# Altium footprint library Package_SON.PcbLib: 75 footprints (part 1 of 5)
Each footprint in its own frame and in the unit in brackets; x right, y up, seen from the top. Pads: shape width x height; smd on the part's side, far side on the other; paste and mask are expansions set on the pad; w line width, h text height; cw(c..) or ccw(c..) is an arc to the next point about the centre after c.
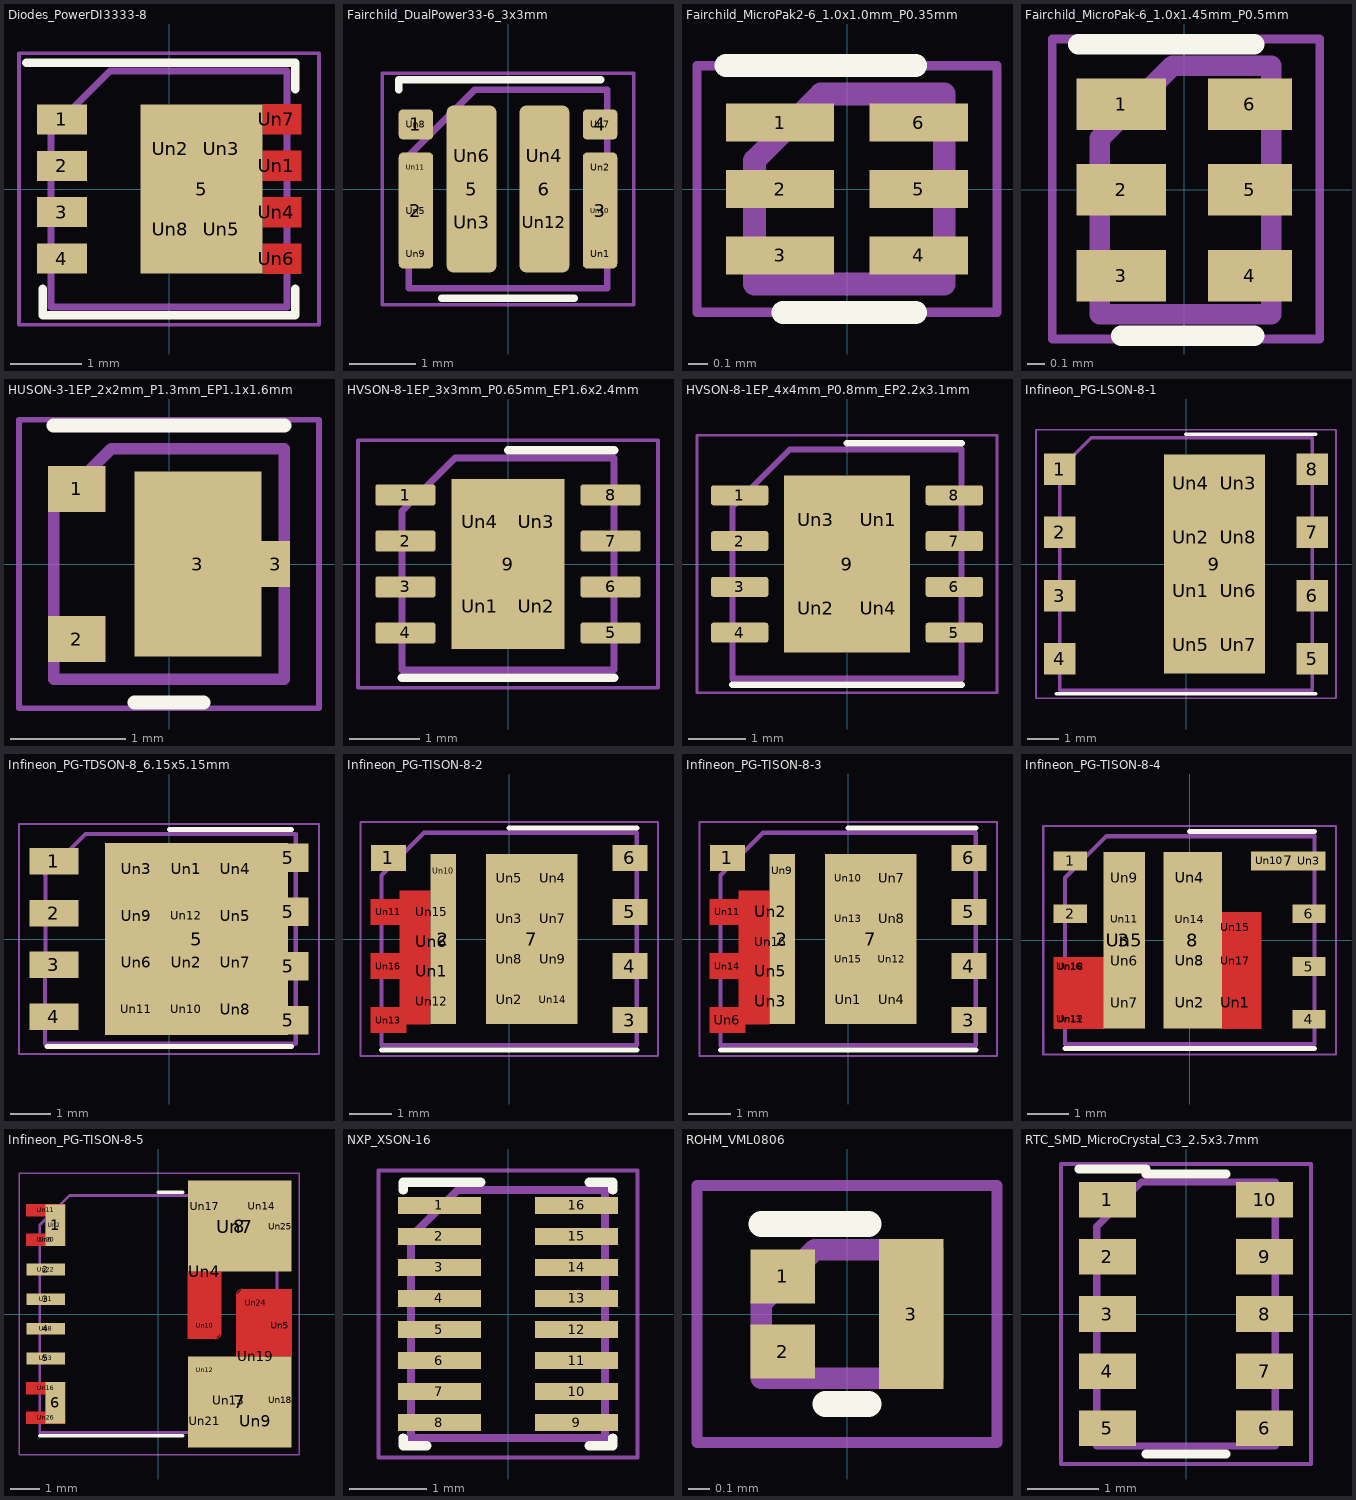
[diagram p0: the footprints below, top view; thin cyan lines are the x and y axes]

## Diodes_PowerDI3333-8 [mm]
pads (13):
  rect 0.7x0.42 smd: 1(-1.5,0.975) 2(-1.5,0.325) 3(-1.5,-0.325) 4(-1.5,-0.975)
  rect 1.71x2.37 smd: 5(0.455,0)
  rect 0.7x0.42 on Top Paste: Un1(1.5,0.325) Un4(1.5,-0.325) Un6(1.5,-0.975) Un7(1.5,0.975)
  rect 0.6x1 on Top Paste: Un2(0.02,0.565) Un3(0.73,0.565) Un5(0.73,-0.565) Un8(0.02,-0.565)
F.Cu:
  region: 1.85,0.765 1.31,0.765 1.31,1.185 1.85,1.185
  region: 1.85,0.115 1.31,0.115 1.31,0.535 1.85,0.535
  region: 1.85,-0.535 1.31,-0.535 1.31,-0.115 1.85,-0.115
  region: 1.85,-1.185 1.31,-1.185 1.31,-0.765 1.85,-0.765
F.SilkS:
  lines w0.12: -2,1.77 1.77,1.77 1.77,1.4 ; -1.77,-1.4 -1.77,-1.77 1.77,-1.77 1.77,-1.4
F.Mask:
  region: 1.85,0.765 1.31,0.765 1.31,1.185 1.85,1.185
  region: 1.85,0.115 1.31,0.115 1.31,0.535 1.85,0.535
  region: 1.85,-0.535 1.31,-0.535 1.31,-0.115 1.85,-0.115
  region: 1.85,-1.185 1.31,-1.185 1.31,-0.765 1.85,-0.765
F.CrtYd:
  lines w0.05: -2.1,-1.9 2.1,-1.9 2.1,1.9 -2.1,1.9 -2.1,-1.9
F.Fab:
  lines w0.1: -1.65,-1.65 1.65,-1.65 1.65,1.65 -0.825,1.65 -1.65,0.825 -1.65,-1.65
  text "'.Designator'" at -2.828,-0.583 h0.7

## Fairchild_DualPower33-6_3x3mm [mm]
pads (18):
  rrect25% 0.52x0.45 smd: 1(-1.39,0.975) 4(1.39,0.975)
  rrect25% 0.52x1.75 smd: 2(-1.39,-0.325) 3(1.39,-0.325)
  rrect25% 0.75x2.52 smd: 5(-0.55,0) 6(0.55,0)
  rrect25% 0.35x0.35 on Top Paste: Un1(1.39,-0.975) Un2(1.39,0.325) Un5(-1.39,-0.325) Un7(1.39,0.975) Un8(-1.39,0.975) Un9(-1.39,-0.975) Un10(1.39,-0.325) Un11(-1.39,0.325)
  rrect25% 0.65x0.8 on Top Paste: Un3(-0.55,-0.5) Un4(0.55,0.5) Un6(-0.55,0.5) Un12(0.55,-0.5)
F.SilkS:
  lines w0.12: -1.65,1.5 -1.65,1.65 1.4,1.65 ; -1,-1.65 1,-1.65
F.CrtYd:
  lines w0.05: -1.9,-1.75 1.9,-1.75 1.9,1.75 -1.9,1.75 -1.9,-1.75
F.Fab:
  lines w0.1: -1.5,-1.5 1.5,-1.5 1.5,1.5 -0.5,1.5 -1.5,0.5 -1.5,-1.5
  text "'.Designator'" at -2.633,-0.549 h0.65

## Fairchild_MicroPak2-6_1.0x1.0mm_P0.35mm [mm]
pads (6):
  rect 0.57x0.2 smd: 1(-0.353,0.35) 2(-0.353,0) 3(-0.353,-0.35)
  rect 0.52x0.2 smd: 4(0.377,-0.35) 5(0.377,0) 6(0.377,0.35)
F.SilkS:
  lines w0.12: -0.637,0.65 0.363,0.65 ; -0.337,-0.65 0.363,-0.65
F.CrtYd:
  lines w0.05: -0.79,-0.65 -0.79,0.65 0.79,0.65 0.79,-0.65 -0.79,-0.65
F.Fab:
  lines w0.12: -0.487,-0.5 -0.487,0.15 -0.138,0.5 0.513,0.5 0.513,-0.5 -0.487,-0.5
  text "'.Designator'" at -2.011,-0.42 h0.5

## Fairchild_MicroPak-6_1.0x1.45mm_P0.5mm [mm]
pads (6):
  rect 0.52x0.3 smd: 1(-0.367,0.5) 2(-0.367,0) 3(-0.367,-0.5)
  rect 0.49x0.3 smd: 4(0.383,-0.5) 5(0.383,0) 6(0.383,0.5)
F.SilkS:
  lines w0.12: -0.617,0.85 0.407,0.85 ; -0.367,-0.85 0.407,-0.85
F.CrtYd:
  lines w0.05: -0.77,-0.87 0.79,-0.87 0.79,0.88 -0.77,0.88 -0.77,-0.87
F.Fab:
  lines w0.12: -0.493,-0.725 -0.493,0.3 -0.068,0.725 0.507,0.725 0.507,-0.725 -0.493,-0.725
  text "'.Designator'" at -2.016,-0.42 h0.5

## HUSON-3-1EP_2x2mm_P1.3mm_EP1.1x1.6mm [mm]
pads (4):
  rect 0.5x0.4 smd: 1(-0.8,0.65) 2(-0.8,-0.65)
  rect 1.1x1.6 smd: 3(0.25,0)
  rect 0.25x0.4 smd: 3(0.925,0)
F.SilkS:
  lines w0.12: -1,1.2 1,1.2 ; -0.3,-1.2 0.3,-1.2
F.CrtYd:
  lines w0.05: -1.3,-1.25 1.3,-1.25 1.3,1.25 -1.3,1.25 -1.3,-1.25
F.Fab:
  lines w0.1: -1,-1 1,-1 1,1 -0.5,1 -1,0.5 -1,-1
  text "'.Designator'" at -1.619,-0.336 h0.4

## HVSON-8-1EP_3x3mm_P0.65mm_EP1.6x2.4mm [mm]
pads (13):
  rrect25% 0.85x0.3 smd: 1(-1.45,0.975) 2(-1.45,0.325) 3(-1.45,-0.325) 4(-1.45,-0.975) 5(1.45,-0.975) 6(1.45,-0.325) 7(1.45,0.325) 8(1.45,0.975)
  rect 1.6x2.4 smd: 9(0,0)
  rrect25% 0.64x0.97 on Top Paste: Un1(-0.4,-0.6) Un2(0.4,-0.6) Un3(0.4,0.6) Un4(-0.4,0.6)
F.SilkS:
  lines w0.12: -1.5,-1.61 1.5,-1.61 ; 0,1.61 1.5,1.61
F.CrtYd:
  lines w0.05: -2.12,-1.75 -2.12,1.75 2.12,1.75 2.12,-1.75 -2.12,-1.75
F.Fab:
  lines w0.1: -1.5,-1.5 -1.5,0.75 -0.75,1.5 1.5,1.5 1.5,-1.5 -1.5,-1.5
  text "'.Designator'" at -3.033,-0.628 h0.75

## HVSON-8-1EP_4x4mm_P0.8mm_EP2.2x3.1mm [mm]
pads (13):
  rrect25% 1x0.35 smd: 1(-1.875,1.2) 2(-1.875,0.4) 3(-1.875,-0.4) 4(-1.875,-1.2) 5(1.875,-1.2) 6(1.875,-0.4) 7(1.875,0.4) 8(1.875,1.2)
  rect 2.2x3.1 smd: 9(0,0)
  rrect25% 0.89x1.25 on Top Paste: Un1(0.55,0.775) Un2(-0.55,-0.775) Un3(-0.55,0.775) Un4(0.55,-0.775)
F.SilkS:
  lines w0.12: -2,-2.11 2,-2.11 ; 0,2.11 2,2.11
F.CrtYd:
  lines w0.05: -2.62,-2.25 -2.62,2.25 2.62,2.25 2.62,-2.25 -2.62,-2.25
F.Fab:
  lines w0.1: -2,-2 -2,1 -1,2 2,2 2,-2 -2,-2
  text "'.Designator'" at -4.047,-0.84 h1

## Infineon_PG-LSON-8-1 [mm]
pads (17):
  rect 1x1 smd: 1(-4,3) 2(-4,1) 3(-4,-1) 4(-4,-3) 5(4,-3) 6(4,-1) 7(4,1) 8(4,3)
  rect 3.2x6.94 smd: 9(0.9,0)
  rect 1.2x1.4 on Top Paste: Un1(0.15,-0.85) Un2(0.15,0.85) Un3(1.65,2.55) Un4(0.15,2.55) Un5(0.15,-2.55) Un6(1.65,-0.85) Un7(1.65,-2.55) Un8(1.65,0.85)
F.SilkS:
  lines w0.12: -4.11,-4.11 4.11,-4.11 ; 0,4.11 4.1,4.11
F.CrtYd:
  lines w0.05: -4.75,-4.25 4.75,-4.25 4.75,4.25 -4.75,4.25 -4.75,-4.25
F.Fab:
  lines w0.1: -4,-4 4,-4 4,4 -3,4 -4,3 -4,-4
  text "'.Designator'" at -4.047,-0.84 h1

## Infineon_PG-TDSON-8_6.15x5.15mm [mm]
pads (21):
  rect 1.2x0.65 smd: 1(-2.825,1.905) 2(-2.825,0.635) 3(-2.825,-0.635) 4(-2.825,-1.905)
  rect 4.5x4.7 smd: 5(0.675,0)
  rect 1x0.7 smd: 5(2.925,-1.995) 5(2.925,-0.665) 5(2.925,0.665) 5(2.925,1.995)
  rect 0.9x0.9 on Top Paste: Un1(0.425,1.725) Un2(0.425,-0.575) Un3(-0.8,1.725) Un4(1.625,1.725) Un5(1.625,0.575) Un6(-0.8,-0.575) Un7(1.625,-0.575) Un8(1.625,-1.725) Un9(-0.8,0.575) Un10(0.425,-1.725) Un11(-0.8,-1.725) Un12(0.425,0.575)
F.SilkS:
  lines w0.12: -2.995,-2.64 3.005,-2.64 ; 0.005,2.685 3.005,2.685
F.CrtYd:
  lines w0.05: -3.68,-2.82 -3.68,2.82 3.68,2.82 3.68,-2.82 -3.68,-2.82
F.Fab:
  lines w0.1: -3.045,1.575 -2.045,2.575 ; -3.04,-2.57 3.11,-2.57 3.11,2.58 -2.04,2.58 ; -3.04,-2.56 -3.035,1.57
  text "'.Designator'" at -1.06,-4.097 h1

## Infineon_PG-TISON-8-2 [mm]
pads (23):
  rect 0.83x0.61 smd: 1(-2.84,1.905) 3(2.84,-1.905) 4(2.84,-0.635) 5(2.84,0.635) 6(2.84,1.905)
  rect 0.6x4 smd: 2(-1.555,0)
  rect 2.15x4 smd: 7(0.53,0)
  rect 0.9x0.5 on Top Paste: Un1(-1.82,-0.76) Un6(-1.82,-0.06) Un12(-1.82,-1.46) Un15(-1.82,0.64)
  rect 0.75x0.75 on Top Paste: Un2(0,-1.425) Un3(0,0.475) Un4(1.025,1.425) Un5(0,1.425) Un7(1.025,0.475) Un8(0,-0.475) Un9(1.025,-0.475) Un14(1.025,-1.425)
  rect 0.35x0.6 on Top Paste: Un10(-1.545,1.6)
  rect 0.73x0.51 on Top Paste: Un11(-2.84,0.635) Un13(-2.84,-1.905) Un16(-2.84,-0.635)
F.Cu:
  region: -1.855,-2 -2.425,-2 -2.425,-2.21 -3.255,-2.21 -3.255,-1.6 -2.575,-1.6 -2.575,-0.94 -3.255,-0.94 -3.255,-0.33 -2.575,-0.33 -2.575,0.33 -3.255,0.33 -3.255,0.94 -2.575,0.94 -2.575,1.14 -1.855,1.14
F.SilkS:
  lines w0.12: -3,-2.61 3,-2.61 ; 0,2.61 3,2.61
F.Mask:
  region: -1.855,-2 -2.425,-2 -2.425,-2.21 -3.255,-2.21 -3.255,-1.6 -2.575,-1.6 -2.575,-0.94 -3.255,-0.94 -3.255,-0.33 -2.575,-0.33 -2.575,0.33 -3.255,0.33 -3.255,0.94 -2.575,0.94 -2.575,1.14 -1.855,1.14
F.CrtYd:
  lines w0.05: -3.5,-2.75 -3.5,2.75 3.5,2.75 3.5,-2.75 -3.5,-2.75
F.Fab:
  lines w0.1: -3,-2.5 -3,1.5 -2,2.5 3,2.5 3,-2.5 -3,-2.5
  text "'.Designator'" at -4.047,-0.84 h1

## Infineon_PG-TISON-8-3 [mm]
pads (23):
  rect 0.83x0.61 smd: 1(-2.84,1.905) 3(2.84,-1.905) 4(2.84,-0.635) 5(2.84,0.635) 6(2.84,1.905)
  rect 0.6x4 smd: 2(-1.555,0)
  rect 2.15x4 smd: 7(0.53,0)
  rect 0.75x0.75 on Top Paste: Un1(0,-1.425) Un4(1.025,-1.425) Un7(1.025,1.425) Un8(1.025,0.475) Un10(0,1.425) Un12(1.025,-0.475) Un13(0,0.475) Un15(0,-0.475)
  rect 0.9x0.5 on Top Paste: Un2(-1.82,0.64) Un3(-1.82,-1.46) Un5(-1.82,-0.76) Un16(-1.82,-0.06)
  rect 0.73x0.51 on Top Paste: Un6(-2.84,-1.905) Un11(-2.84,0.635) Un14(-2.84,-0.635)
  rect 0.35x0.6 on Top Paste: Un9(-1.545,1.6)
F.Cu:
  region: -1.855,-2 -2.425,-2 -2.425,-2.21 -3.255,-2.21 -3.255,-1.6 -2.575,-1.6 -2.575,-0.94 -3.255,-0.94 -3.255,-0.33 -2.575,-0.33 -2.575,0.33 -3.255,0.33 -3.255,0.94 -2.575,0.94 -2.575,1.14 -1.855,1.14
F.SilkS:
  lines w0.12: -3,-2.61 3,-2.61 ; 0,2.61 3,2.61
F.Mask:
  region: -1.855,-2 -2.425,-2 -2.425,-2.21 -3.255,-2.21 -3.255,-1.6 -2.575,-1.6 -2.575,-0.94 -3.255,-0.94 -3.255,-0.33 -2.575,-0.33 -2.575,0.33 -3.255,0.33 -3.255,0.94 -2.575,0.94 -2.575,1.14 -1.855,1.14
F.CrtYd:
  lines w0.05: -3.5,-2.75 3.5,-2.75 3.5,2.75 -3.5,2.75 -3.5,-2.75
F.Fab:
  lines w0.1: -3,-2.5 3,-2.5 3,2.5 -2,2.5 -3,1.5 -3,-2.5
  text "'.Designator'" at -4.047,-0.84 h1

## Infineon_PG-TISON-8-4 [mm]
pads (26):
  rect 0.8x0.45 smd: 1(-2.87,1.905) 2(-2.87,0.635) 4(2.87,-1.905) 5(2.87,-0.635) 6(2.87,0.635)
  rect 1x4.25 smd: 3(-1.57,0)
  rect 1.8x0.45 smd: 7(2.37,1.905)
  rect 1.4x4.25 smd: 8(0.077,0)
  rect 0.85x0.75 on Top Paste: Un1(1.1,-1.5) Un2(0,-1.5) Un4(0,1.5) Un8(0,-0.5) Un14(0,0.5) Un17(1.1,-0.5)
  rect 0.7x0.35 on Top Paste: Un3(2.87,1.905) Un13(-2.87,-1.905) Un16(-2.87,-0.635)
  rect 1x4.25 on Top Solder: Un5(-1.57,0)
  rect 0.8x0.75 on Top Paste: Un6(-1.57,-0.5) Un7(-1.57,-1.5) Un9(-1.57,1.5) Un11(-1.57,0.5)
  rect 0.8x0.35 on Top Paste: Un10(1.92,1.905)
  rect 0.8x0.45 on Top Solder: Un12(-2.87,-1.905) Un18(-2.87,-0.635)
  rect 0.85x0.38 on Top Paste: Un15(1.1,0.315)
F.Cu:
  region: -2.07,-2.13 -3.27,-2.13 -3.27,-0.41 -2.07,-0.41
  region: 1.727,-2.125 0.777,-2.125 0.777,0.675 1.727,0.675
F.SilkS:
  lines w0.12: -3,-2.61 3,-2.61 ; 0,2.61 3,2.61
F.Mask:
  region: 1.727,-2.125 0.777,-2.125 0.777,0.675 1.727,0.675
F.CrtYd:
  lines w0.05: -3.52,-2.75 3.52,-2.75 3.52,2.75 -3.52,2.75 -3.52,-2.75
F.Fab:
  lines w0.1: -3,-2.5 -3,1.5 -2,2.5 3,2.5 3,-2.5 -3,-2.5
  text "'.Designator'" at -4.047,-0.84 h1

## Infineon_PG-TISON-8-5 [mm]
pads (34):
  rect 0.66x1.4 smd: 1(-3.47,3) 6(-3.47,-3)
  rect 1.3x0.4 smd: 2(-3.8,1.5) 3(-3.8,0.5) 4(-3.8,-0.5) 5(-3.8,-1.5)
  rect 3.5x3.07 smd: 7(2.75,-2.965) 8(2.75,2.965)
  rect 1.2x0.3 on Top Paste: Un1(-3.8,0.5) Un3(-3.8,-1.5) Un6(-3.8,2.5) Un8(-3.8,-0.5) Un11(-3.8,3.5) Un16(-3.8,-2.5) Un20(-3.8,2.5) Un22(-3.8,1.5) Un26(-3.8,-3.5)
  rect 0.5x0.4 on Top Paste: Un2(-3.49,3) Un23(-3.49,-3)
  rect 0.7x1.6 on Top Paste: Un4(1.561,1.425)
  rect 0.4x2.055 on Top Paste: Un5(4.111,-0.403)
  rect 0.95x2.62 on Top Paste: Un7(2.586,2.94)
  rect 0.863x1.275 on Top Paste: Un9(3.28,-3.612)
  rect 0.7x0.455 on Top Paste: Un10(1.561,-0.403)
  rect 0.7x0.545 on Top Paste: Un12(1.561,-1.903)
  rect 0.537x2.57 on Top Paste: Un13(2.379,-2.915)
  rect 0.45x1.225 on Top Paste: Un14(3.486,3.638)
  rect 0.45x0.595 on Top Paste: Un15(3.486,1.927)
  rect 0.7x1.225 on Top Paste: Un17(1.561,3.638)
  rect 0.4x2.57 on Top Paste: Un18(4.111,-2.915)
  rect 0.863x1.5 on Top Paste: Un19(3.28,-1.425)
  rect 0.7x1.275 on Top Paste: Un21(1.561,-3.612)
  rect 0.863x0.5 on Top Paste: Un24(3.28,0.375)
  rect 0.4x2.62 on Top Paste: Un25(4.111,2.94)
F.Cu:
  region: -3.14,2.3 -4.45,2.3 -4.45,2.7 -3.8,2.7 -3.8,3.3 -4.45,3.3 -4.45,3.7 -3.14,3.7
  region: -3.14,-3.7 -4.45,-3.7 -4.45,-3.3 -3.8,-3.3 -3.8,-2.7 -4.45,-2.7 -4.45,-2.3 -3.14,-2.3
  region: 4.5,-1.43 2.625,-1.43 2.625,0.63 2.825,0.83 4.5,0.83
  circle w0: c2.825,0.63 r0.2
  region: 2.125,-0.63 1.925,-0.83 1,-0.83 1,1.43 2.125,1.43
  circle w0: c1.925,-0.63 r0.2
F.SilkS:
  lines w0.12: -4,-4.11 0.82,-4.11 ; 0,4.11 0.82,4.11
F.Mask:
  region: -3.14,2.3 -4.45,2.3 -4.45,2.7 -3.8,2.7 -3.8,3.3 -4.45,3.3 -4.45,3.7 -3.14,3.7
  region: -3.14,-3.7 -4.45,-3.7 -4.45,-3.3 -3.8,-3.3 -3.8,-2.7 -4.45,-2.7 -4.45,-2.3 -3.14,-2.3
  region: 4.5,-1.43 2.625,-1.43 2.625,0.63 2.825,0.83 4.5,0.83
  circle w0: c2.825,0.63 r0.2
  region: 2.125,-0.63 1.925,-0.83 1,-0.83 1,1.43 2.125,1.43
  circle w0: c1.925,-0.63 r0.2
F.CrtYd:
  lines w0.05: -4.7,-4.75 -4.7,4.75 4.75,4.75 4.75,-4.75 -4.7,-4.75
F.Fab:
  lines w0.1: -4,-4 -4,3 -3,4 4,4 4,-4 -4,-4
  text "'.Designator'" at -4.047,-0.84 h1

## NXP_XSON-16 [mm]
pads (16):
  rect 1.07x0.22 smd: 1(-0.885,1.4) 2(-0.885,1) 3(-0.885,0.6) 4(-0.885,0.2) 5(-0.885,-0.2) 6(-0.885,-0.6) 7(-0.885,-1) 8(-0.885,-1.4) 9(0.885,-1.4) 10(0.885,-1) 11(0.885,-0.6) 12(0.885,-0.2) 13(0.885,0.2) 14(0.885,0.6) 15(0.885,1) 16(0.885,1.4)
F.SilkS:
  lines w0.12: -1.35,-1.6 -1.35,-1.7 -1.05,-1.7 ; -1.35,1.6 -1.35,1.7 -0.35,1.7 ; 1.05,-1.7 1.35,-1.7 1.35,-1.6 ; 1.05,1.7 1.35,1.7 1.35,1.6
F.CrtYd:
  lines w0.05: -1.67,-1.85 -1.67,1.85 1.67,1.85 1.67,-1.85 -1.67,-1.85
F.Fab:
  lines w0.1: -1.25,0.975 -1.25,-1.6 1.25,-1.6 1.25,1.6 -0.625,1.6 ; -1.25,1 -0.65,1.6
  text "'.Designator'" at -2.438,-0.514 h0.6

## ROHM_VML0806 [mm]
pads (3):
  rect 0.3x0.25 smd: 1(-0.3,0.175) 2(-0.3,-0.175)
  rect 0.3x0.7 smd: 3(0.3,0)
F.SilkS:
  lines w0.12: -0.4,0.42 0.1,0.42 ; -0.1,-0.42 0.1,-0.42
F.CrtYd:
  lines w0.05: -0.7,-0.6 0.7,-0.6 0.7,0.6 -0.7,0.6 -0.7,-0.6
F.Fab:
  lines w0.1: -0.4,-0.3 -0.4,0.05 -0.15,0.3 0.4,0.3 0.4,-0.3 -0.4,-0.3
  text "'.Designator'" at -0.515,-0.108 h0.13

## RTC_SMD_MicroCrystal_C3_2.5x3.7mm [mm]
pads (10):
  rect 0.8x0.5 smd: 1(-1.1,1.6) 2(-1.1,0.8) 3(-1.1,0) 4(-1.1,-0.8) 5(-1.1,-1.6) 6(1.1,-1.6) 7(1.1,-0.8) 8(1.1,0) 9(1.1,0.8) 10(1.1,1.6)
F.SilkS:
  lines w0.12: -1.5,2.03 -0.56,2.03 -0.56,1.96 0.56,1.96 ; -0.56,-1.96 0.56,-1.96
F.CrtYd:
  lines w0.05: -1.75,-2.1 -1.75,2.1 1.75,2.1 1.75,-2.1 -1.75,-2.1
F.Fab:
  lines w0.1: -1.25,-1.85 -1.25,1.225 -0.625,1.85 1.25,1.85 1.25,-1.85 -1.25,-1.85
  text "'.Designator'" at -2.028,-0.425 h0.5